# Altium schematic symbol library SCH - POWER - SWITCHMODE - DIODES AP5100.SCHLIB: 1 symbol
Pins are listed as number, name and electrical type; pins without a type are passive.

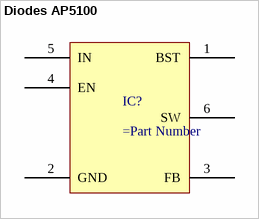
[diagram p0: symbol Diodes AP5100]

## Diodes AP5100
designator IC?
pins: 1 BST, 2 GND, 3 FB, 4 EN, 5 IN, 6 SW